# Altium integrated library con-amp-mt.IntLib: 50 symbols
Pins are listed as number, name and electrical type; pins without a type are passive.

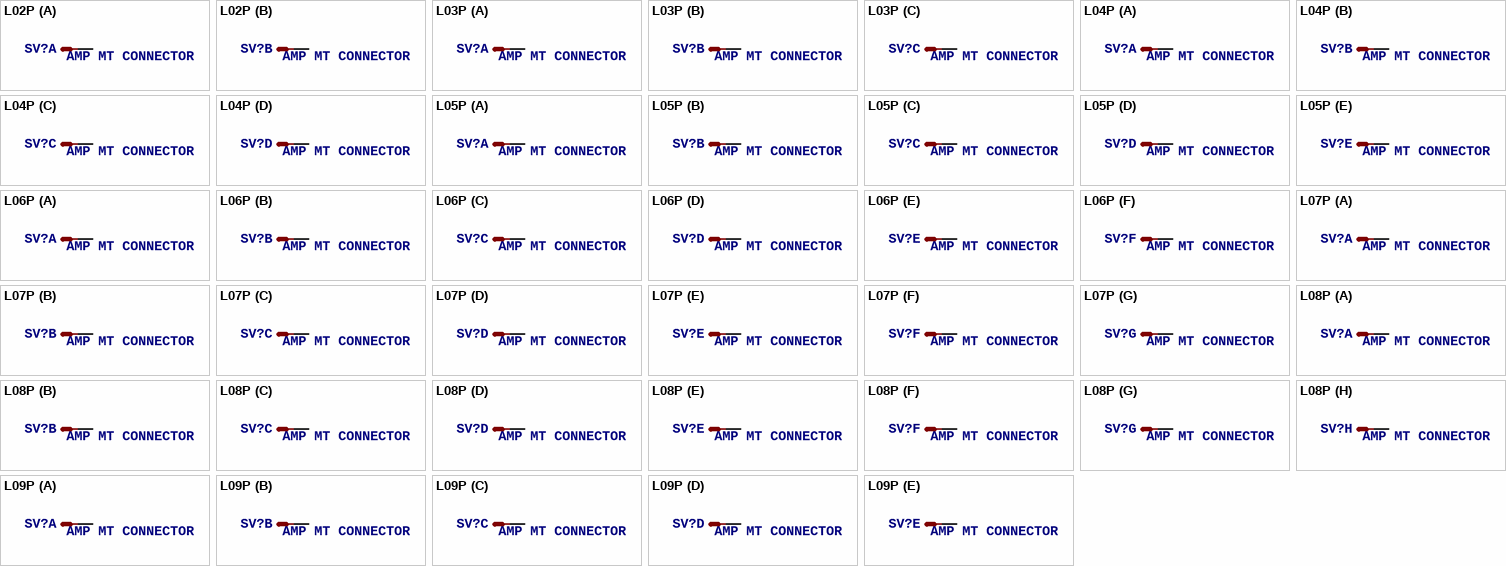
[diagram p0: symbols L02P to L09P]

## L02P
designator SV?, comment AMP MT CONNECTOR
OC_FARNELL: unknown; OC_NEWARK: unknown
footprint L02P
part A pins: 1 S
part B pins: 2 S

## L03P
designator SV?, comment AMP MT CONNECTOR
OC_FARNELL: unknown; OC_NEWARK: unknown
footprint L03P
part A pins: 1 S
part B pins: 2 S
part C pins: 3 S

## L04P
designator SV?, comment AMP MT CONNECTOR
OC_FARNELL: unknown; OC_NEWARK: unknown
footprint L04P
part A pins: 1 S
part B pins: 2 S
part C pins: 3 S
part D pins: 4 S

## L05P
designator SV?, comment AMP MT CONNECTOR
OC_FARNELL: unknown; OC_NEWARK: unknown
footprint L05P
part A pins: 1 S
part B pins: 2 S
part C pins: 3 S
part D pins: 4 S
part E pins: 5 S

## L06P
designator SV?, comment AMP MT CONNECTOR
OC_FARNELL: unknown; OC_NEWARK: unknown
footprint L06P
part A pins: 1 S
part B pins: 2 S
part C pins: 3 S
part D pins: 4 S
part E pins: 5 S
part F pins: 6 S

## L07P
designator SV?, comment AMP MT CONNECTOR
OC_FARNELL: unknown; OC_NEWARK: unknown
footprint L07P
part A pins: 1 S
part B pins: 2 S
part C pins: 3 S
part D pins: 4 S
part E pins: 5 S
part F pins: 6 S
part G pins: 7 S

## L08P
designator SV?, comment AMP MT CONNECTOR
OC_FARNELL: unknown; OC_NEWARK: unknown
footprint L08P
part A pins: 1 S
part B pins: 2 S
part C pins: 3 S
part D pins: 4 S
part E pins: 5 S
part F pins: 6 S
part G pins: 7 S
part H pins: 8 S

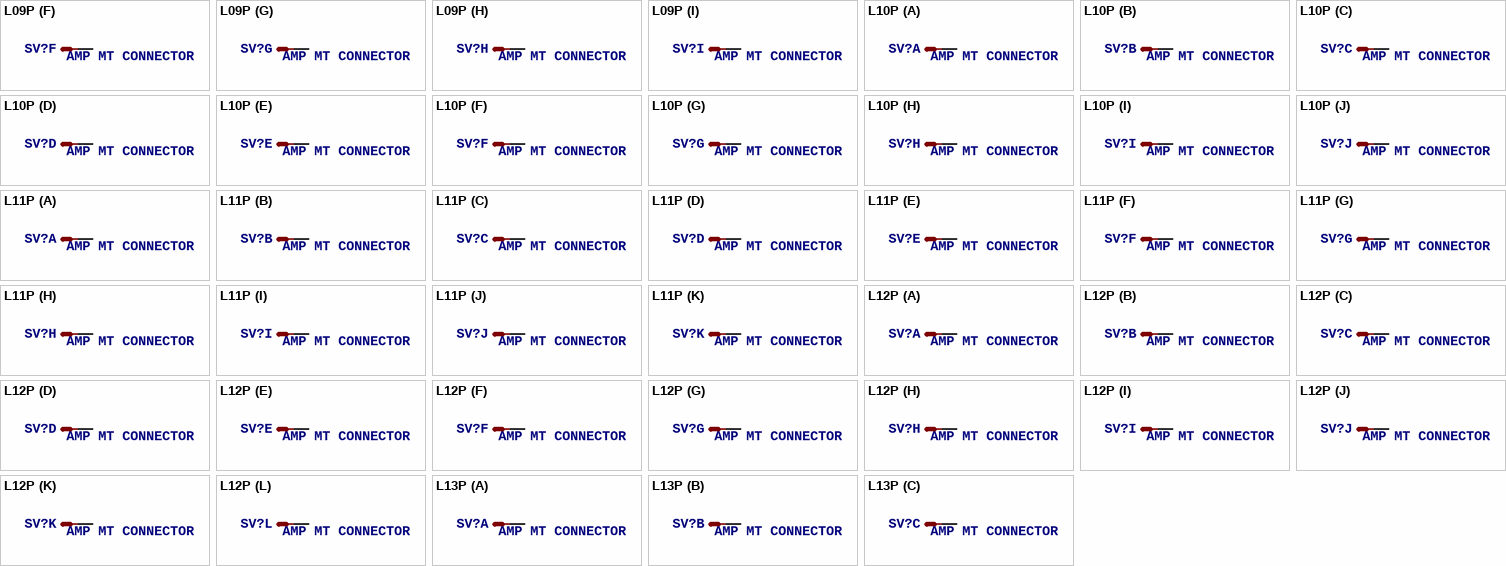
[diagram p1: symbols L09P to L13P]

## L09P
designator SV?, comment AMP MT CONNECTOR
OC_FARNELL: unknown; OC_NEWARK: unknown
footprint L09P
part A pins: 1 S
part B pins: 2 S
part C pins: 3 S
part D pins: 4 S
part E pins: 5 S
part F pins: 6 S
part G pins: 7 S
part H pins: 8 S
part I pins: 9 S

## L10P
designator SV?, comment AMP MT CONNECTOR
OC_FARNELL: unknown; OC_NEWARK: unknown
footprint L10P
part A pins: 1 S
part B pins: 2 S
part C pins: 3 S
part D pins: 4 S
part E pins: 5 S
part F pins: 6 S
part G pins: 7 S
part H pins: 8 S
part I pins: 9 S
part J pins: 10 S

## L11P
designator SV?, comment AMP MT CONNECTOR
OC_FARNELL: unknown; OC_NEWARK: unknown
footprint L11P
part A pins: 1 S
part B pins: 2 S
part C pins: 3 S
part D pins: 4 S
part E pins: 5 S
part F pins: 6 S
part G pins: 7 S
part H pins: 8 S
part I pins: 9 S
part J pins: 10 S
part K pins: 11 S

## L12P
designator SV?, comment AMP MT CONNECTOR
OC_FARNELL: unknown; OC_NEWARK: unknown
footprint L12P
part A pins: 1 S
part B pins: 2 S
part C pins: 3 S
part D pins: 4 S
part E pins: 5 S
part F pins: 6 S
part G pins: 7 S
part H pins: 8 S
part I pins: 9 S
part J pins: 10 S
part K pins: 11 S
part L pins: 12 S

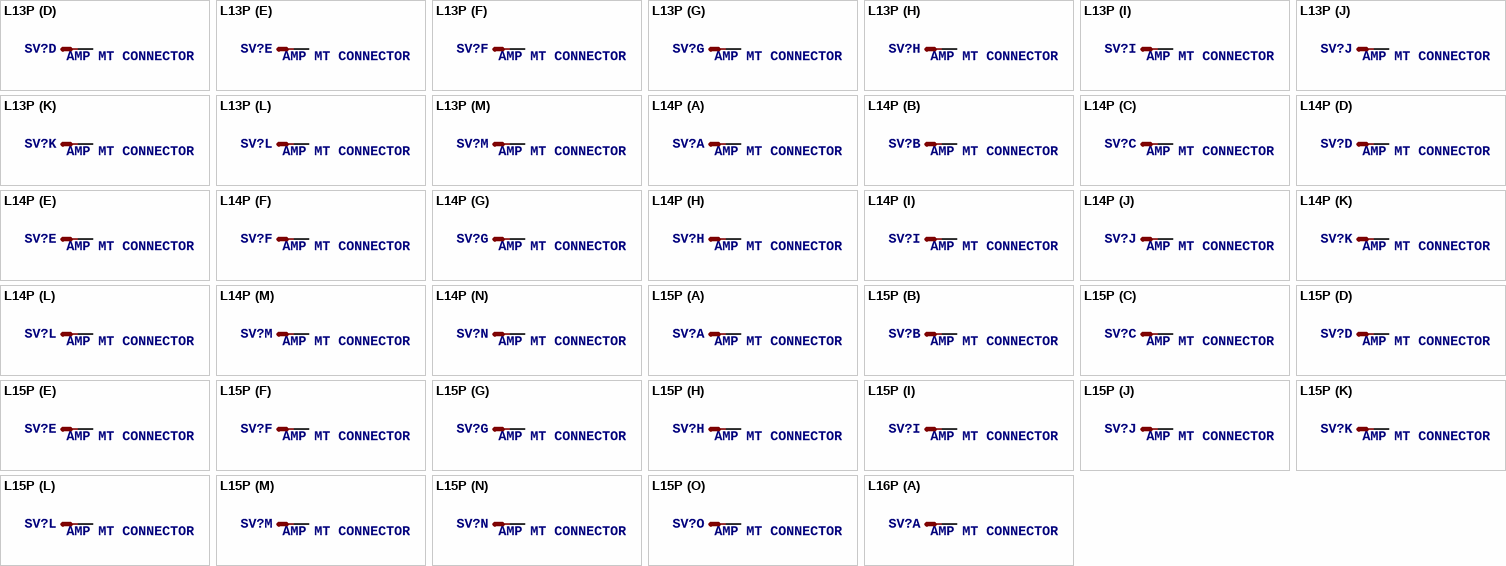
[diagram p2: symbols L13P to L16P]

## L13P
designator SV?, comment AMP MT CONNECTOR
OC_FARNELL: unknown; OC_NEWARK: unknown
footprint L13P
part A pins: 1 S
part B pins: 2 S
part C pins: 3 S
part D pins: 4 S
part E pins: 5 S
part F pins: 6 S
part G pins: 7 S
part H pins: 8 S
part I pins: 9 S
part J pins: 10 S
part K pins: 11 S
part L pins: 12 S
part M pins: 13 S

## L14P
designator SV?, comment AMP MT CONNECTOR
OC_FARNELL: unknown; OC_NEWARK: unknown
footprint L14P
part A pins: 1 S
part B pins: 2 S
part C pins: 3 S
part D pins: 4 S
part E pins: 5 S
part F pins: 6 S
part G pins: 7 S
part H pins: 8 S
part I pins: 9 S
part J pins: 10 S
part K pins: 11 S
part L pins: 12 S
part M pins: 13 S
part N pins: 14 S

## L15P
designator SV?, comment AMP MT CONNECTOR
OC_FARNELL: unknown; OC_NEWARK: unknown
footprint L15P
part A pins: 1 S
part B pins: 2 S
part C pins: 3 S
part D pins: 4 S
part E pins: 5 S
part F pins: 6 S
part G pins: 7 S
part H pins: 8 S
part I pins: 9 S
part J pins: 10 S
part K pins: 11 S
part L pins: 12 S
part M pins: 13 S
part N pins: 14 S
part O pins: 15 S

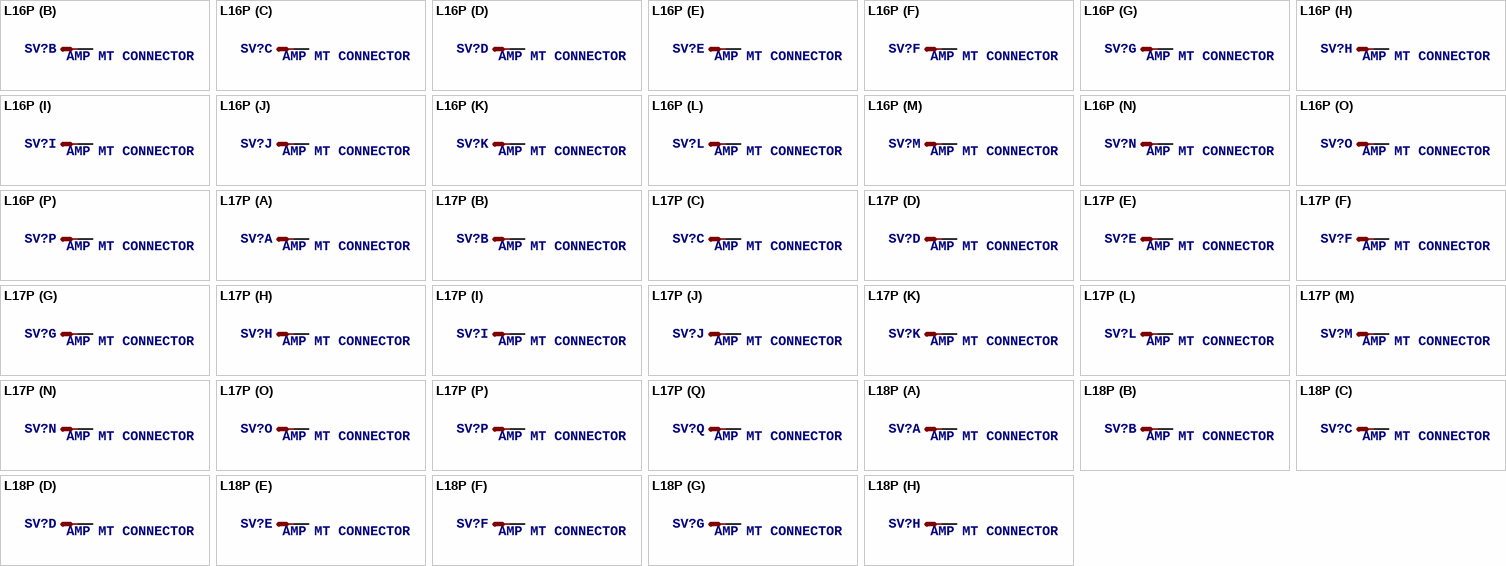
[diagram p3: symbols L16P to L18P]

## L16P
designator SV?, comment AMP MT CONNECTOR
OC_FARNELL: unknown; OC_NEWARK: unknown
footprint L16P
part A pins: 1 S
part B pins: 2 S
part C pins: 3 S
part D pins: 4 S
part E pins: 5 S
part F pins: 6 S
part G pins: 7 S
part H pins: 8 S
part I pins: 9 S
part J pins: 10 S
part K pins: 11 S
part L pins: 12 S
part M pins: 13 S
part N pins: 14 S
part O pins: 15 S
part P pins: 16 S

## L17P
designator SV?, comment AMP MT CONNECTOR
OC_FARNELL: unknown; OC_NEWARK: unknown
footprint L17P
part A pins: 1 S
part B pins: 2 S
part C pins: 3 S
part D pins: 4 S
part E pins: 5 S
part F pins: 6 S
part G pins: 7 S
part H pins: 8 S
part I pins: 9 S
part J pins: 10 S
part K pins: 11 S
part L pins: 12 S
part M pins: 13 S
part N pins: 14 S
part O pins: 15 S
part P pins: 16 S
part Q pins: 17 S

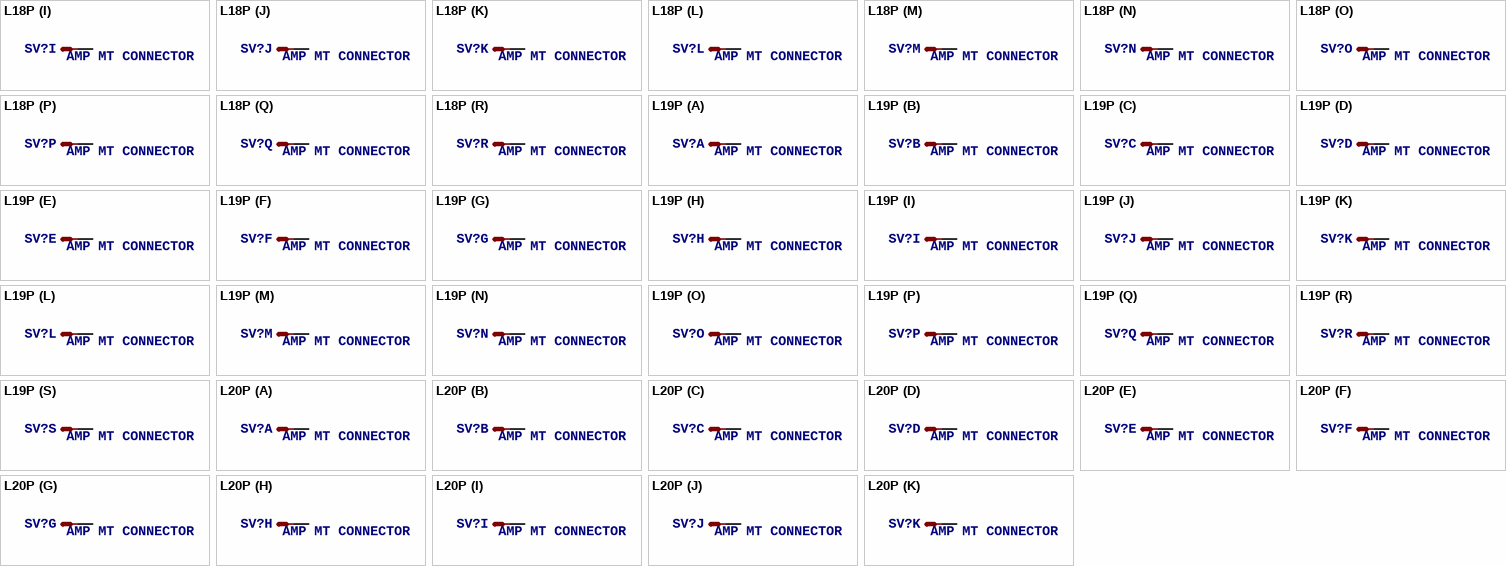
[diagram p4: symbols L18P to L20P]

## L18P
designator SV?, comment AMP MT CONNECTOR
OC_FARNELL: unknown; OC_NEWARK: unknown
footprint L18P
part A pins: 1 S
part B pins: 2 S
part C pins: 3 S
part D pins: 4 S
part E pins: 5 S
part F pins: 6 S
part G pins: 7 S
part H pins: 8 S
part I pins: 9 S
part J pins: 10 S
part K pins: 11 S
part L pins: 12 S
part M pins: 13 S
part N pins: 14 S
part O pins: 15 S
part P pins: 16 S
part Q pins: 17 S
part R pins: 18 S

## L19P
designator SV?, comment AMP MT CONNECTOR
OC_FARNELL: unknown; OC_NEWARK: unknown
footprint L19P
part A pins: 1 S
part B pins: 2 S
part C pins: 3 S
part D pins: 4 S
part E pins: 5 S
part F pins: 6 S
part G pins: 7 S
part H pins: 8 S
part I pins: 9 S
part J pins: 10 S
part K pins: 11 S
part L pins: 12 S
part M pins: 13 S
part N pins: 14 S
part O pins: 15 S
part P pins: 16 S
part Q pins: 17 S
part R pins: 18 S
part S pins: 19 S

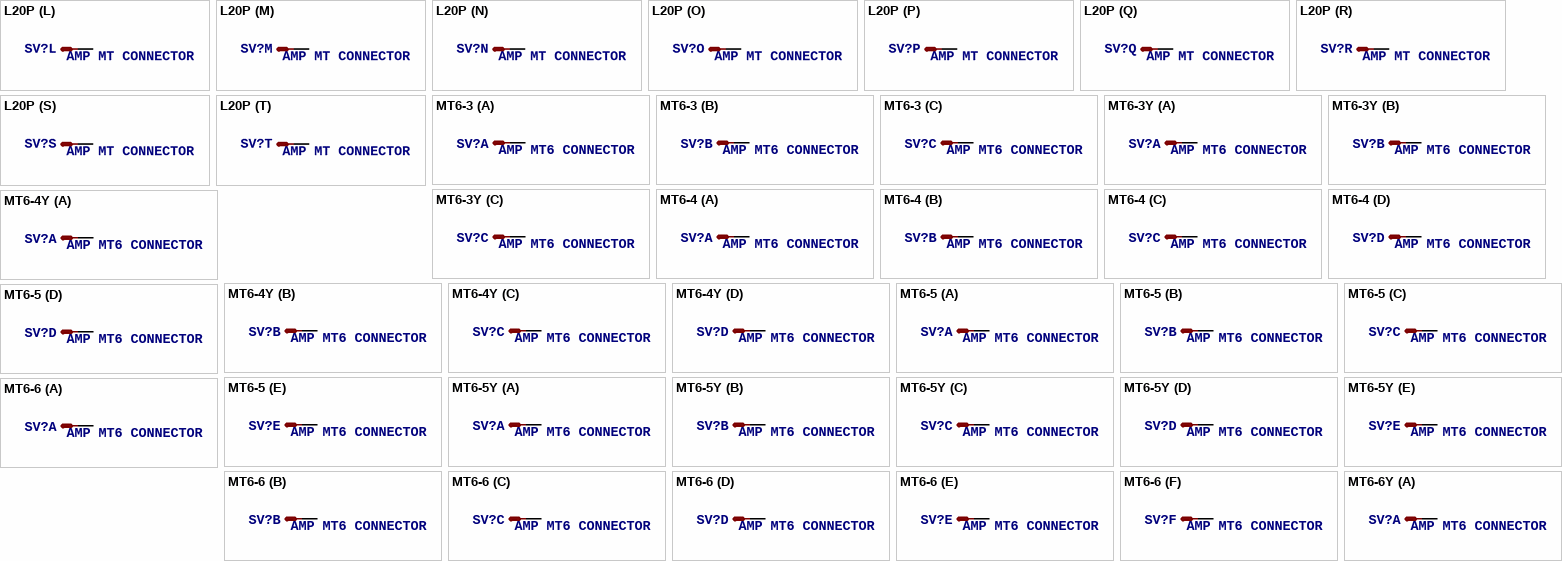
[diagram p5: symbols L20P to MT6-6Y]

## L20P
designator SV?, comment AMP MT CONNECTOR
OC_FARNELL: unknown; OC_NEWARK: unknown
footprint L20P
part A pins: 1 S
part B pins: 2 S
part C pins: 3 S
part D pins: 4 S
part E pins: 5 S
part F pins: 6 S
part G pins: 7 S
part H pins: 8 S
part I pins: 9 S
part J pins: 10 S
part K pins: 11 S
part L pins: 12 S
part M pins: 13 S
part N pins: 14 S
part O pins: 15 S
part P pins: 16 S
part Q pins: 17 S
part R pins: 18 S
part S pins: 19 S
part T pins: 20 S

## MT6-3
designator SV?, comment AMP MT6 CONNECTOR
OC_FARNELL: unknown; OC_NEWARK: unknown
footprint MT6-3
part A pins: 1 S
part B pins: 2 S
part C pins: 3 S

## MT6-3Y
designator SV?, comment AMP MT6 CONNECTOR
OC_FARNELL: unknown; OC_NEWARK: unknown
footprint MT6-3Y
part A pins: 1 S
part B pins: 2 S
part C pins: 3 S

## MT6-4
designator SV?, comment AMP MT6 CONNECTOR
OC_FARNELL: unknown; OC_NEWARK: unknown
footprint MT6-4
part A pins: 1 S
part B pins: 2 S
part C pins: 3 S
part D pins: 4 S

## MT6-4Y
designator SV?, comment AMP MT6 CONNECTOR
OC_FARNELL: unknown; OC_NEWARK: unknown
footprint MT6-4Y
part A pins: 1 S
part B pins: 2 S
part C pins: 3 S
part D pins: 4 S

## MT6-5
designator SV?, comment AMP MT6 CONNECTOR
OC_FARNELL: unknown; OC_NEWARK: unknown
footprint MT6-5
part A pins: 1 S
part B pins: 2 S
part C pins: 3 S
part D pins: 4 S
part E pins: 5 S

## MT6-5Y
designator SV?, comment AMP MT6 CONNECTOR
OC_FARNELL: unknown; OC_NEWARK: unknown
footprint MT6-5Y
part A pins: 1 S
part B pins: 2 S
part C pins: 3 S
part D pins: 4 S
part E pins: 5 S

## MT6-6
designator SV?, comment AMP MT6 CONNECTOR
OC_FARNELL: unknown; OC_NEWARK: unknown
footprint MT6-6
part A pins: 1 S
part B pins: 2 S
part C pins: 3 S
part D pins: 4 S
part E pins: 5 S
part F pins: 6 S

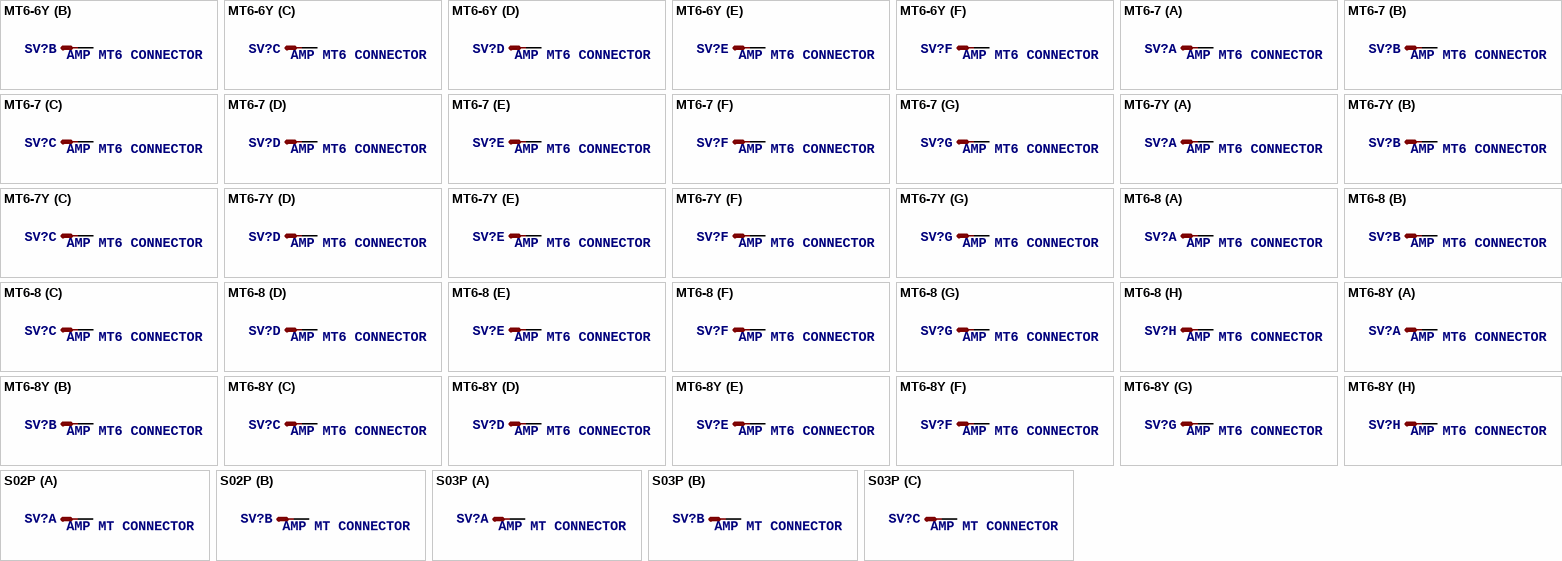
[diagram p6: symbols MT6-6Y to S03P]

## MT6-6Y
designator SV?, comment AMP MT6 CONNECTOR
OC_FARNELL: unknown; OC_NEWARK: unknown
footprint MT6-6Y
part A pins: 1 S
part B pins: 2 S
part C pins: 3 S
part D pins: 4 S
part E pins: 5 S
part F pins: 6 S

## MT6-7
designator SV?, comment AMP MT6 CONNECTOR
OC_FARNELL: unknown; OC_NEWARK: unknown
footprint MT6-7
part A pins: 1 S
part B pins: 2 S
part C pins: 3 S
part D pins: 4 S
part E pins: 5 S
part F pins: 6 S
part G pins: 7 S

## MT6-7Y
designator SV?, comment AMP MT6 CONNECTOR
OC_FARNELL: unknown; OC_NEWARK: unknown
footprint MT6-7Y
part A pins: 1 S
part B pins: 2 S
part C pins: 3 S
part D pins: 4 S
part E pins: 5 S
part F pins: 6 S
part G pins: 7 S

## MT6-8
designator SV?, comment AMP MT6 CONNECTOR
OC_FARNELL: unknown; OC_NEWARK: unknown
footprint MT6-8
part A pins: 1 S
part B pins: 2 S
part C pins: 3 S
part D pins: 4 S
part E pins: 5 S
part F pins: 6 S
part G pins: 7 S
part H pins: 8 S

## MT6-8Y
designator SV?, comment AMP MT6 CONNECTOR
OC_FARNELL: unknown; OC_NEWARK: unknown
footprint MT6-8Y
part A pins: 1 S
part B pins: 2 S
part C pins: 3 S
part D pins: 4 S
part E pins: 5 S
part F pins: 6 S
part G pins: 7 S
part H pins: 8 S

## S02P
designator SV?, comment AMP MT CONNECTOR
OC_FARNELL: unknown; OC_NEWARK: unknown
footprint S02P
part A pins: 1 S
part B pins: 2 S

## S03P
designator SV?, comment AMP MT CONNECTOR
OC_FARNELL: unknown; OC_NEWARK: unknown
footprint S03P
part A pins: 1 S
part B pins: 2 S
part C pins: 3 S

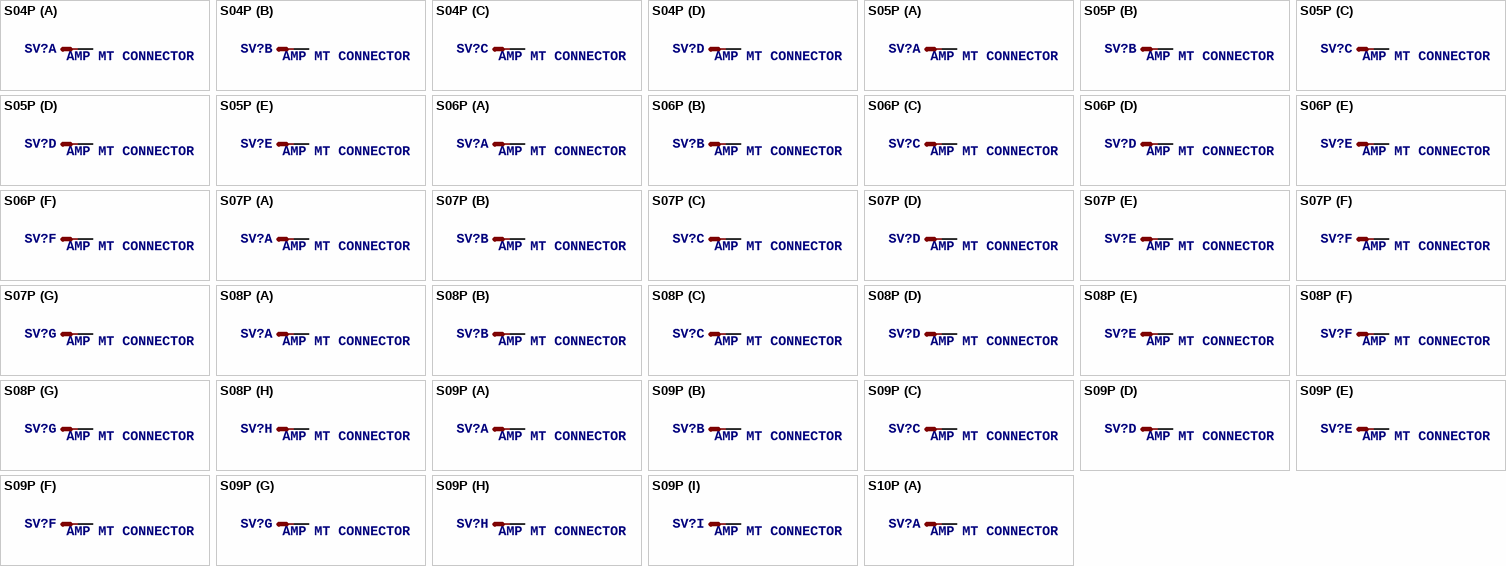
[diagram p7: symbols S04P to S10P]

## S04P
designator SV?, comment AMP MT CONNECTOR
OC_FARNELL: unknown; OC_NEWARK: unknown
footprint S04P
part A pins: 1 S
part B pins: 2 S
part C pins: 3 S
part D pins: 4 S

## S05P
designator SV?, comment AMP MT CONNECTOR
OC_FARNELL: unknown; OC_NEWARK: unknown
footprint S05P
part A pins: 1 S
part B pins: 2 S
part C pins: 3 S
part D pins: 4 S
part E pins: 5 S

## S06P
designator SV?, comment AMP MT CONNECTOR
OC_FARNELL: unknown; OC_NEWARK: unknown
footprint S06P
part A pins: 1 S
part B pins: 2 S
part C pins: 3 S
part D pins: 4 S
part E pins: 5 S
part F pins: 6 S

## S07P
designator SV?, comment AMP MT CONNECTOR
OC_FARNELL: unknown; OC_NEWARK: unknown
footprint S07P
part A pins: 1 S
part B pins: 2 S
part C pins: 3 S
part D pins: 4 S
part E pins: 5 S
part F pins: 6 S
part G pins: 7 S

## S08P
designator SV?, comment AMP MT CONNECTOR
OC_FARNELL: unknown; OC_NEWARK: unknown
footprint S08P
part A pins: 1 S
part B pins: 2 S
part C pins: 3 S
part D pins: 4 S
part E pins: 5 S
part F pins: 6 S
part G pins: 7 S
part H pins: 8 S

## S09P
designator SV?, comment AMP MT CONNECTOR
OC_FARNELL: unknown; OC_NEWARK: unknown
footprint S09P
part A pins: 1 S
part B pins: 2 S
part C pins: 3 S
part D pins: 4 S
part E pins: 5 S
part F pins: 6 S
part G pins: 7 S
part H pins: 8 S
part I pins: 9 S

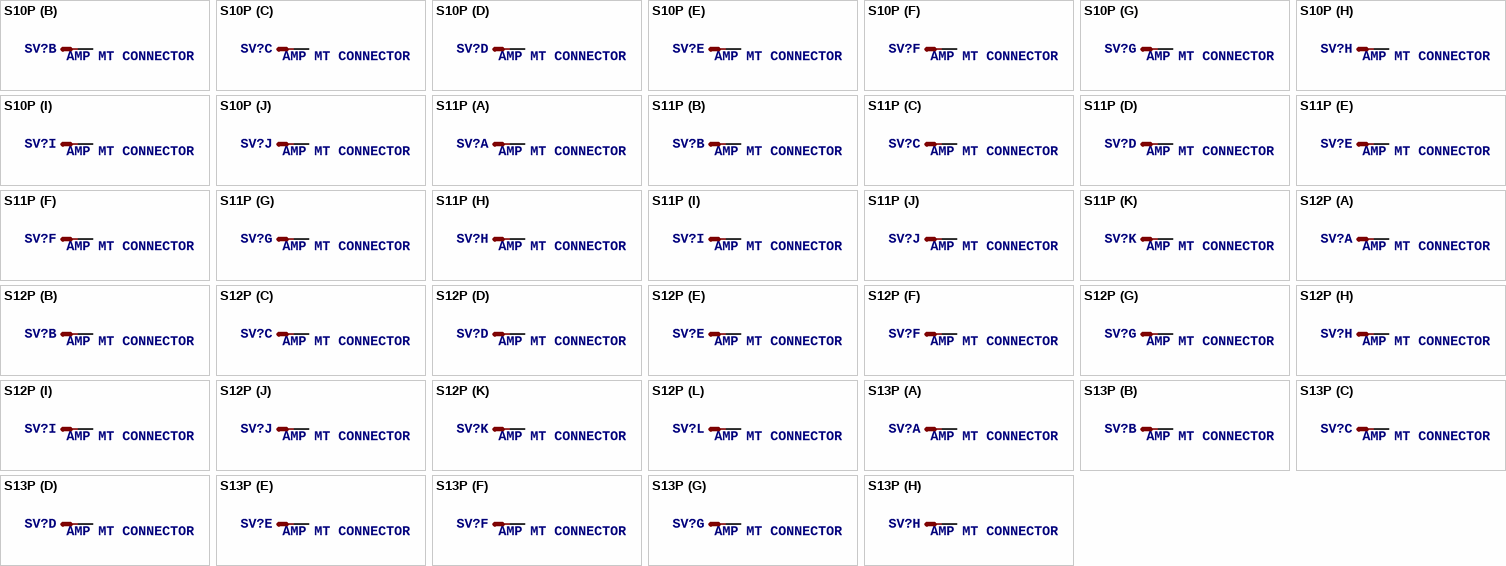
[diagram p8: symbols S10P to S13P]

## S10P
designator SV?, comment AMP MT CONNECTOR
OC_FARNELL: unknown; OC_NEWARK: unknown
footprint S10P
part A pins: 1 S
part B pins: 2 S
part C pins: 3 S
part D pins: 4 S
part E pins: 5 S
part F pins: 6 S
part G pins: 7 S
part H pins: 8 S
part I pins: 9 S
part J pins: 10 S

## S11P
designator SV?, comment AMP MT CONNECTOR
OC_FARNELL: unknown; OC_NEWARK: unknown
footprint S11P
part A pins: 1 S
part B pins: 2 S
part C pins: 3 S
part D pins: 4 S
part E pins: 5 S
part F pins: 6 S
part G pins: 7 S
part H pins: 8 S
part I pins: 9 S
part J pins: 10 S
part K pins: 11 S

## S12P
designator SV?, comment AMP MT CONNECTOR
OC_FARNELL: unknown; OC_NEWARK: unknown
footprint S12P
part A pins: 1 S
part B pins: 2 S
part C pins: 3 S
part D pins: 4 S
part E pins: 5 S
part F pins: 6 S
part G pins: 7 S
part H pins: 8 S
part I pins: 9 S
part J pins: 10 S
part K pins: 11 S
part L pins: 12 S

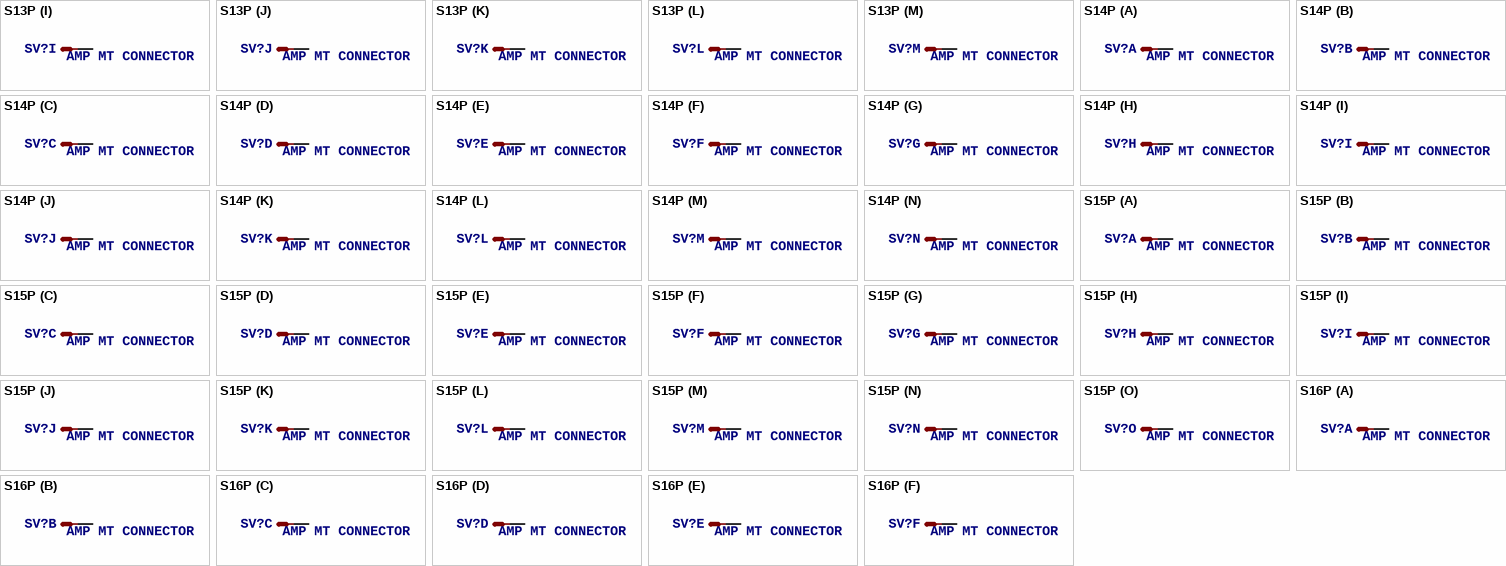
[diagram p9: symbols S13P to S16P]

## S13P
designator SV?, comment AMP MT CONNECTOR
OC_FARNELL: unknown; OC_NEWARK: unknown
footprint S13P
part A pins: 1 S
part B pins: 2 S
part C pins: 3 S
part D pins: 4 S
part E pins: 5 S
part F pins: 6 S
part G pins: 7 S
part H pins: 8 S
part I pins: 9 S
part J pins: 10 S
part K pins: 11 S
part L pins: 12 S
part M pins: 13 S

## S14P
designator SV?, comment AMP MT CONNECTOR
OC_FARNELL: unknown; OC_NEWARK: unknown
footprint S14P
part A pins: 1 S
part B pins: 2 S
part C pins: 3 S
part D pins: 4 S
part E pins: 5 S
part F pins: 6 S
part G pins: 7 S
part H pins: 8 S
part I pins: 9 S
part J pins: 10 S
part K pins: 11 S
part L pins: 12 S
part M pins: 13 S
part N pins: 14 S

## S15P
designator SV?, comment AMP MT CONNECTOR
OC_FARNELL: unknown; OC_NEWARK: unknown
footprint S15P
part A pins: 1 S
part B pins: 2 S
part C pins: 3 S
part D pins: 4 S
part E pins: 5 S
part F pins: 6 S
part G pins: 7 S
part H pins: 8 S
part I pins: 9 S
part J pins: 10 S
part K pins: 11 S
part L pins: 12 S
part M pins: 13 S
part N pins: 14 S
part O pins: 15 S

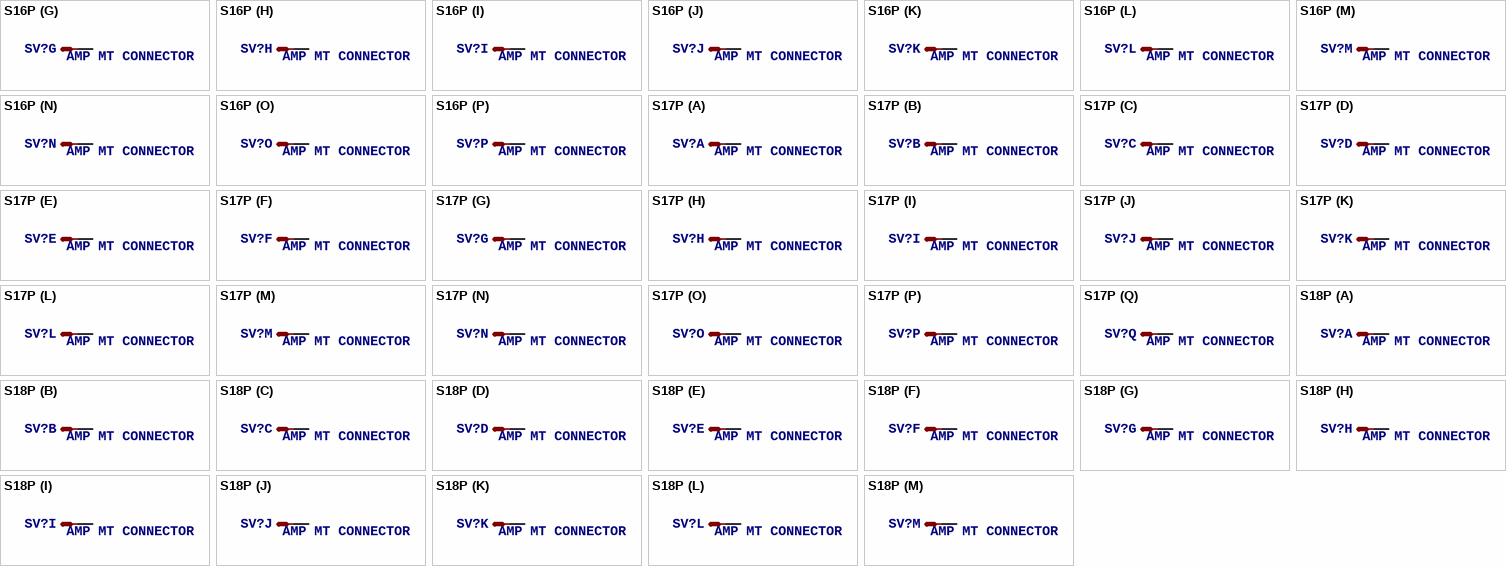
[diagram p10: symbols S16P to S18P]

## S16P
designator SV?, comment AMP MT CONNECTOR
OC_FARNELL: unknown; OC_NEWARK: unknown
footprint S16P
part A pins: 1 S
part B pins: 2 S
part C pins: 3 S
part D pins: 4 S
part E pins: 5 S
part F pins: 6 S
part G pins: 7 S
part H pins: 8 S
part I pins: 9 S
part J pins: 10 S
part K pins: 11 S
part L pins: 12 S
part M pins: 13 S
part N pins: 14 S
part O pins: 15 S
part P pins: 16 S

## S17P
designator SV?, comment AMP MT CONNECTOR
OC_FARNELL: unknown; OC_NEWARK: unknown
footprint S17P
part A pins: 1 S
part B pins: 2 S
part C pins: 3 S
part D pins: 4 S
part E pins: 5 S
part F pins: 6 S
part G pins: 7 S
part H pins: 8 S
part I pins: 9 S
part J pins: 10 S
part K pins: 11 S
part L pins: 12 S
part M pins: 13 S
part N pins: 14 S
part O pins: 15 S
part P pins: 16 S
part Q pins: 17 S

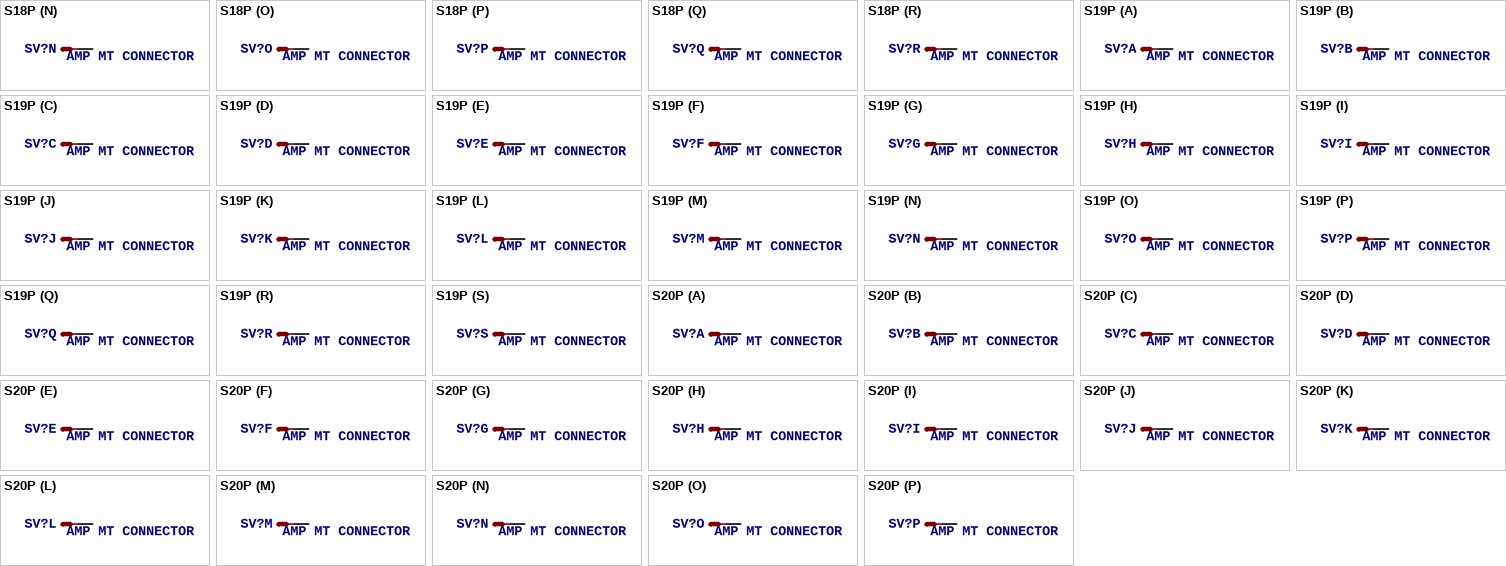
[diagram p11: symbols S18P to S20P]

## S18P
designator SV?, comment AMP MT CONNECTOR
OC_FARNELL: unknown; OC_NEWARK: unknown
footprint S18P
part A pins: 1 S
part B pins: 2 S
part C pins: 3 S
part D pins: 4 S
part E pins: 5 S
part F pins: 6 S
part G pins: 7 S
part H pins: 8 S
part I pins: 9 S
part J pins: 10 S
part K pins: 11 S
part L pins: 12 S
part M pins: 13 S
part N pins: 14 S
part O pins: 15 S
part P pins: 16 S
part Q pins: 17 S
part R pins: 18 S

## S19P
designator SV?, comment AMP MT CONNECTOR
OC_FARNELL: unknown; OC_NEWARK: unknown
footprint S19P
part A pins: 1 S
part B pins: 2 S
part C pins: 3 S
part D pins: 4 S
part E pins: 5 S
part F pins: 6 S
part G pins: 7 S
part H pins: 8 S
part I pins: 9 S
part J pins: 10 S
part K pins: 11 S
part L pins: 12 S
part M pins: 13 S
part N pins: 14 S
part O pins: 15 S
part P pins: 16 S
part Q pins: 17 S
part R pins: 18 S
part S pins: 19 S

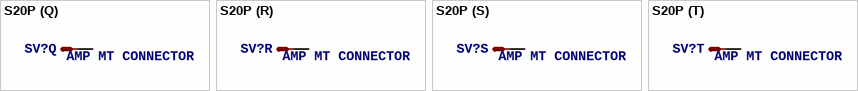
[diagram p12: symbol S20P]

## S20P
designator SV?, comment AMP MT CONNECTOR
OC_FARNELL: unknown; OC_NEWARK: unknown
footprint S20P
part A pins: 1 S
part B pins: 2 S
part C pins: 3 S
part D pins: 4 S
part E pins: 5 S
part F pins: 6 S
part G pins: 7 S
part H pins: 8 S
part I pins: 9 S
part J pins: 10 S
part K pins: 11 S
part L pins: 12 S
part M pins: 13 S
part N pins: 14 S
part O pins: 15 S
part P pins: 16 S
part Q pins: 17 S
part R pins: 18 S
part S pins: 19 S
part T pins: 20 S